# Altium schematic symbol library Logic.SchLib: 13 symbols (part 4 of 4)
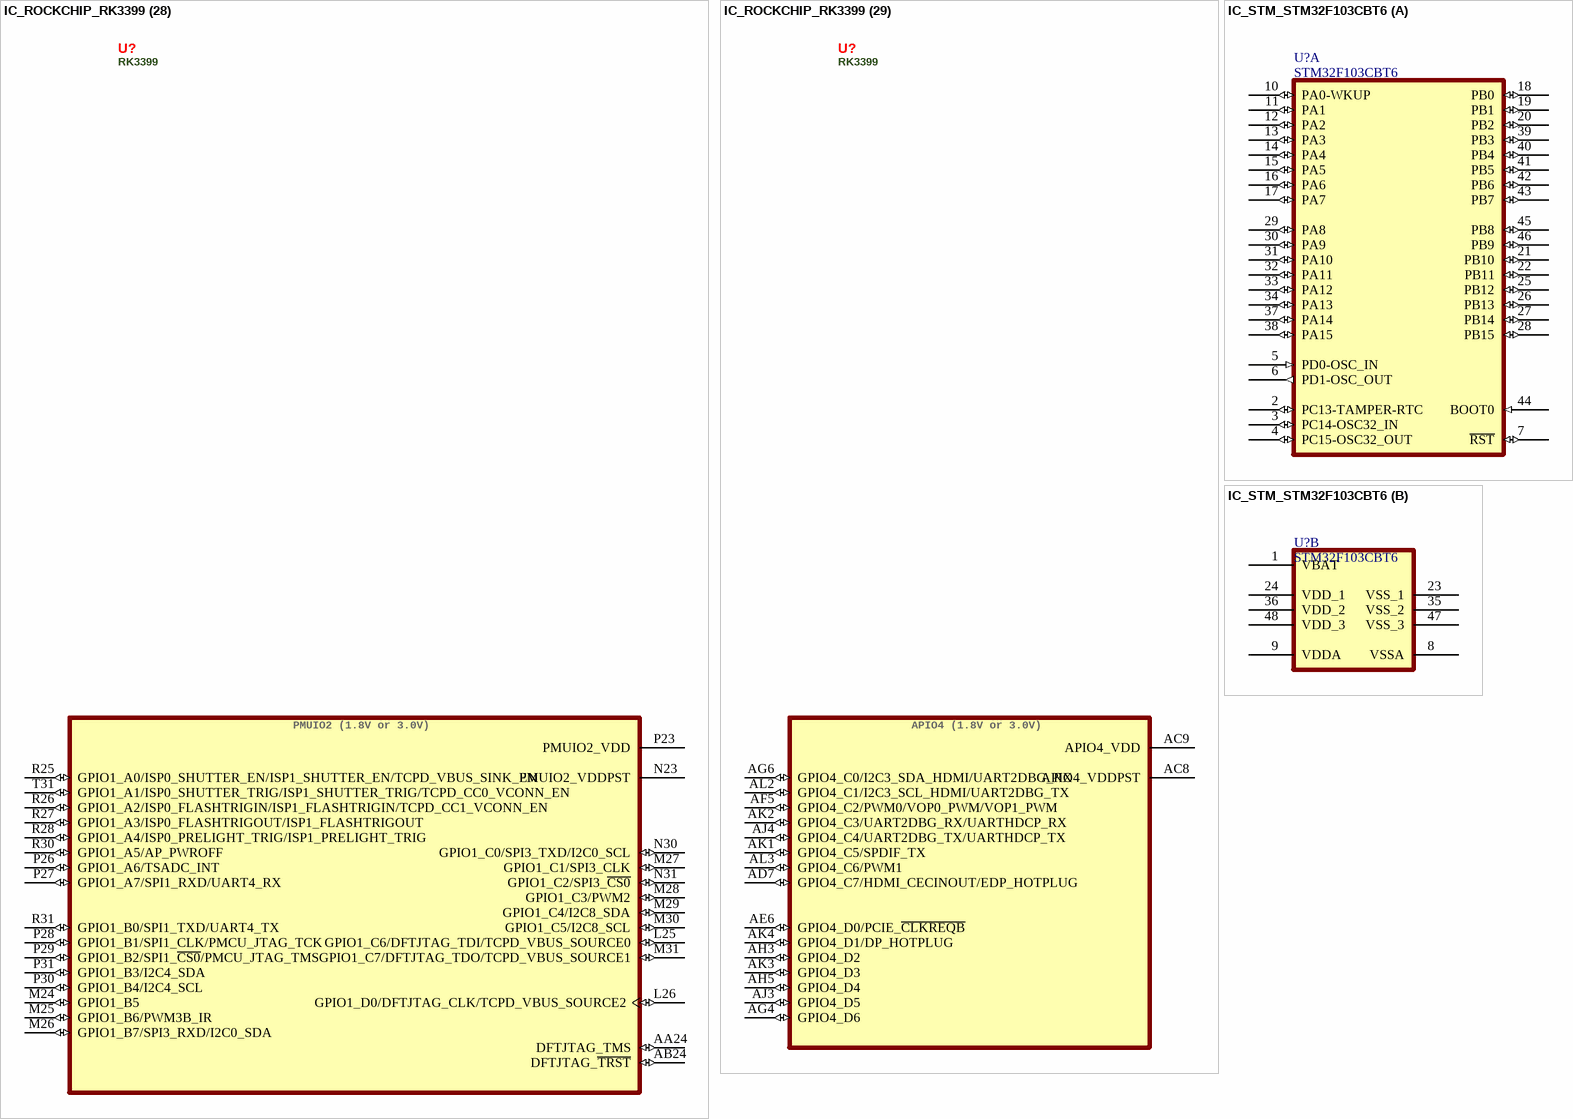
[diagram p10: symbols IC_ROCKCHIP_RK3399 to IC_STM_STM32F103CBT6]

## IC_ROCKCHIP_RK3399 (continued)
part 27 pins: AA6 GPIO3_D5/I2S0_SDI2SDO2 (io) "GPIO3_D5 // I2S0_SDI2SDO2 (I2S/PCM Serial Data Input [2] or output [2] )", AA7 GPIO4_A4/I2S1_LRCK_RX (io) "GPIO4_A4 // I2S1_LRCK_RX (I2S/PCM Left & Right Channel Signal for Receiving Serial Data)", AA8 APIO5_VDDPST (power) "GPIO Group 5 Bias", AC6 GPIO4_A7/I2S1_SDO0 (io) "GPIO4_A7 // I2S1_SDO0 (I2S/PCM Serial Data Output [0] )", AC7 GPIO4_A0/I2S_CLK (io) "GPIO4_A0 // I2S_CLK (I2S/PCM Clock Source, shared by I2S0 and I2S1", AD6 GPIO4_A6/I2S1_SDI0 (io) "GPIO4_A6 // I2S1_SDI0 (I2S/PCM Serial Data Input[0] )", AE5 GPIO3_D4/I2S0_SDI1SDO3 (io) "GPIO3_D4 // I2S0_SDI1SDO3 (I2S/PCM Serial Data Input [1] or output [3] )", AF3 GPIO4_A3/I2S1_SCLK (io) "GPIO4_A3 // I2S1_SCLK (I2S/PCM Serial Clock)", AF4 GPIO3_D1/I2S0_LRCK_RX (io) "GPIO3_D1 // I2S0_LRCK_RX (I2S/PCM Left & Right Channel Signal for Receiving Serial Data)", AG1 GPIO4_A1/I2C1_SDA (io) "GPIO4_A1 // I2C1_SDA (I2C Data Line)", AG3 GPIO3_D0/I2S0_SCLK (io) "GPIO3_D0 // I2S0_SCLK (I2S/PCM Serial Clock)", AH1 GPIO3_D7/I2S0_SDO0 (io) "GPIO3_D7 // I2S0_SDO0 (I2S/PCM Serial Data Output [0] )", AH2 GPIO3_D6/I2S0_SDI3SDO1 (io) "GPIO3_D6 // I2S0_SDI3SDO1 (I2S/PCM Serial Data Input [3] or output [1] )", AJ1 GPIO4_A5/I2S1_LRCK_TX (io) "GPIO4_A5 // I2S1_LRCK_TX (I2S/PCM Left & Right Channel Signal for Transmitting Serial Data)", AJ2 GPIO3_D2/I2S0_LRCK_TX (io) "GPIO3_D2 // I2S0_LRCK_TX (I2S/PCM Left & Right Channel Signal for Transmitting Serial Data)", Y6 GPIO4_A2/I2C1_SCL (io) "GPIO4_A2 // I2C1_SCL (I2C Serial Clock Line)", Y7 GPIO3_D3/I2S0_SDI0 (io) "GPIO3_D3 // I2S0_SDI0 (I2S/PCM Serial Data Input[0] )", Y8 APIO5_VDD (power) "GPIO Group 5 Digital Power"
part 28 pins: AA24 DFTJTAG_TMS (io) "JTAG Test Mode Select", AB24 DFTJTAG_~{TRST} (io) "JTAG Test Resetn", L25 GPIO1_C6/DFTJTAG_TDI/TCPD_VBUS_SOURCE0 (io) "GPIO1_C6 // DFTJTAG_TDI (JTAG Test Data Input) // TCPD_VBUS_SOURCE0", L26 GPIO1_D0/DFTJTAG_CLK/TCPD_VBUS_SOURCE2 (io) "GPIO1_D0 // DFTJTAG_CLK  (JTAG Test Clock) // TCPD_VBUS_SOURCE2", M24 GPIO1_B5 (io), M25 GPIO1_B6/PWM3B_IR (io) "GPIO1_B6 // PWMB3_IR (Pulse Width Modulation Output, special design for IR receiver)", M26 GPIO1_B7/SPI3_RXD/I2C0_SDA (io) "GPIO1_B7 // SPI3_RXD (SPI Serial Data Input) // I2C0_SDA (I2C Data Line)", M27 GPIO1_C1/SPI3_CLK (io) "GPIO1_C1 // SPI3_CLK (SPI Serial Clock)", M28 GPIO1_C3/PWM2 (io) "GPIO1_C3 // PWM2 (Pulse Width Modulation Output)", M29 GPIO1_C4/I2C8_SDA (io) "GPIO1_C4 // I2C8_SDA (I2C Data Line)", M30 GPIO1_C5/I2C8_SCL (io) "GPIO1_C5 // I2C8_SCL (I2C Serial Clock Line)", M31 GPIO1_C7/DFTJTAG_TDO/TCPD_VBUS_SOURCE1 (io) "GPIO1_C7 // DFTJTAG_TDO (JTAG Test Data Output) // TCPD_VBUS_SOURCE1", N23 PMUIO2_VDDPST (power) "PMUIO2 Domain IO Power", N30 GPIO1_C0/SPI3_TXD/I2C0_SCL (io) "GPIO1_C0 // SPI3_TXD (SPI Serial Data Output) // I2C0_SCL (I2C Serial Clock Line)", N31 GPIO1_C2/SPI3_~{CS0} (io) "GPIO1_C2 // SP3_CSn0 (SPI 1st Chip Select)", P23 PMUIO2_VDD (power) "PMUIO2 Domain IO Power", P26 GPIO1_A6/TSADC_INT (io) "TSADC Interrupt Signal for Over Temperature", P27 GPIO1_A7/SPI1_RXD/UART4_RX (io) "GPIO1_A7 // SPI1_RXD (SPI Serial Data Input) // UART4_RX (UART Serial Data Input)", P28 GPIO1_B1/SPI1_CLK/PMCU_JTAG_TCK (io) "GPIO1_B1 // SPI1_CLK (SPI Serial Clock) // PMCU_JTAG_TCK (PMU MCU JTAG Interface Clock Input / SWD Interface Clock Input)", P29 GPIO1_B2/SPI1_~{CS0}/PMCU_JTAG_TMS (io) "GPIO1_B2 // SP1_CSn0 (SPI 1st Chip Select) // PMCU_JTAG_TMS (PMU MCU JTAG Interface TMS Input / SWD Interface Data Out)", P30 GPIO1_B4/I2C4_SCL (io) "GPIO1_B4 // I2C4_SCL (I2C Serial Clock Line)", P31 GPIO1_B3/I2C4_SDA (io) "GPIO1_B3 // I2C4_SDA (I2C Data Line)", R25 GPIO1_A0/ISP0_SHUTTER_EN/ISP1_SHUTTER_EN/TCPD_VBUS_SINK_EN (io) "GPIO1_A0 // ISP0[1]_SHUTTER_EN (Hold Signal for Shutter Open) // TCPD_VBUS_SINK_EN", R26 GPIO1_A2/ISP0_FLASHTRIGIN/ISP1_FLASHTRIGIN/TCPD_CC1_VCONN_EN (io) "GPIO1_A2 // ISP0[1]_FLASHTRIGIN (External Flash Trigger Pulse) // TCPD_CC1_VCONN_EN", R27 GPIO1_A3/ISP0_FLASHTRIGOUT/ISP1_FLASHTRIGOUT (io) "GPIO1_A3 // ISP0[1]_FLASHTRIGOUT (Hold Signal for Flash Light)", R28 GPIO1_A4/ISP0_PRELIGHT_TRIG/ISP1_PRELIGHT_TRIG (io) "GPIO1_A4 // ISP0[1]_PRELIGHT_TRIG (Hold Signal for Prelight)", R30 GPIO1_A5/AP_PWROFF (io) "GPIO1_A5 // AP_PWROFF (System Power Off Control Port (PMIC_SLEEP)", R31 GPIO1_B0/SPI1_TXD/UART4_TX (io) "GPIO1_B0 // SPI1_TXD (SPI Serial Data Output) // UART4_TX (UART Serial Data Output)", T31 GPIO1_A1/ISP0_SHUTTER_TRIG/ISP1_SHUTTER_TRIG/TCPD_CC0_VCONN_EN (io) "GPIO1_A1 // ISP0[1]_SHUTTER_TRIG (External Shutter Trigger Pulse) // TCPD_CC0_VCONN_EN"
part 29 pins: AC8 APIO4_VDDPST (power) "GPIO Group 4 Bias", AC9 APIO4_VDD (power) "GPIO Group 4 Digital Power", AD7 GPIO4_C7/HDMI_CECINOUT/EDP_HOTPLUG (io) "GPIO4_C7 // HDMI_CECINOUT (HDMI CEC Signal) // EDP_HOTPLUG (eDP External Hot Plug Signal)", AE6 GPIO4_D0/PCIE_~{CLKREQB} (io) "GPIO4_D0 // PCIE_CLKREQN (PCIe Clock Request from PCIe Peripheral)", AF5 GPIO4_C2/PWM0/VOP0_PWM/VOP1_PWM (io) "GPIO4_C2 // PWM0 (Pulse Width Modulation Output) // VOP0_PWM // VOP1_PWM ( CABC PWM from VOP0[1] )", AG4 GPIO4_D6 (io), AG6 GPIO4_C0/I2C3_SDA_HDMI/UART2DBG_RX (io) "GPIO4_C0 // I2C3_SDA (I2C Serial Clock Line) // UART2DBG_RX (Debug UART Serial Data Input)", AH3 GPIO4_D2 (io), AH5 GPIO4_D4 (io), AJ3 GPIO4_D5 (io), AJ4 GPIO4_C4/UART2DBG_TX/UARTHDCP_TX (io) "GPIO4_C4 ) // Debug UART Serial Data Output) // UARTHDCP_TX (HDCP UART Serial Data Output)", AK1 GPIO4_C5/SPDIF_TX (io) "GPIO4_C5 // SPDIF_TX (S/PDIF Bi-Phase Data Output)", AK2 GPIO4_C3/UART2DBG_RX/UARTHDCP_RX (io) "GPIO4_C3 ) // Debug UART Serial Data Input) // UARTHDCP_RX (HDCP UART Serial Data Input)", AK3 GPIO4_D3 (io), AK4 GPIO4_D1/DP_HOTPLUG (io) "GPIO4_D4 // DP Internal Hot Plug Signal", AL2 GPIO4_C1/I2C3_SCL_HDMI/UART2DBG_TX (io) "GPIO4_C1 // I2C3_SCL (I2C Serial Clock Line) // UART2DBG_TX (Debug UART Serial Data Output)", AL3 GPIO4_C6/PWM1 (io) "GPIO4_C6 // PWM1 (Pulse Width Modulation Output)"
part A text: Internal BIG CPU A72 Power
part B text: Internal LITTLE CPU A53 Power
part C text: Internal GPU Power
part D text: Internal Logic Power
part E text: Internal Center Logic Power
part F text: Internal Logic Ground and Digital I/O Ground
part G text: Analog Ground
part H text: PMUIO1 (1.8V only)
part I text: DDR1 GROUP INTERFACE
part J text: DDR0 GROUP INTERFACE
part K text: EMMC INTERFACE
part L text: SDMMC0 (1.8V or 3.0V AUTO)
part M text: PCIe INTERFACE
part N text: ADC INTERFACE
part O text: HDMI INTERFACE
part P text: MIPI TX GROUP INTERFACE
part Q text: MIPI RX GROUP INTERFACE
part R text: MIPI TX/RX GROUP INTERFACE
part S text: EDP INTERFACE
part T text: USB 2.0 INTERFACE; USB PHY0; USB PHY1
part U text: TYPE C0 INTERFACE
part V text: TYPE C1 INTERFACE
part W text: USIC
part X text: APIO2 (1.8V or 3.0V)
part Y text: APIO1 (3.3V ONLY)
part Z text: APIO3 (1.8V only)
part 27 text: APIO5 (1.8V or 3.0V)
part 28 text: PMUIO2 (1.8V or 3.0V)
part 29 text: APIO4 (1.8V or 3.0V)

## IC_STM_STM32F103CBT6
designator U?, comment STM32F103CBT6
ARM® Cortex®-M3 STM32 F1 Microcontroller IC 32-Bit 72MHz 128KB (128K x 8) FLASH; Manufacturer: STMicroelectronics; RAM Size: 20KB; Interface: I2C,SPI,USB,CAN,IrDA,UART,USART,LIN; Number of I/Os: 37; Number of Timers/Counters: 4; Max Supply Voltage: 3.6V; Min Supply Voltage: 2V; Oscillator Type: Internal; Data Bus Width: 32b; Watchdog Timer: Yes; Peripherals: POR,PWM,WDT,DMA,Temp Sensor,I2C; Core Architecture: ARM; Number of PWM Channels: 12; Number of ADC Channels: 10; Number of Bits: 32; Number of SPI Channels: 2; Manufacturer Part Number: STM32F103CBT6; Category: Microcontrollers; Case/Package: 48-LQFP; Min Operating Temperature: -40°C; Max Operating Temperature: 85°C; Frequency: 72MHz; Memory Size: 128KB; Number of I2C Channels: 2; RoHS Compliant: Yes; Supplier 1: Digi-Key; Supplier Part Number 1: 497-6288-ND; Supplier 2: Mouser; Supplier Part Number 2: 511-STM32F103CBT6; Memory Type: FLASH; ComponentLink1Description: Datasheet; ComponentLink1URL: https://www.st.com/resource/en/datasheet/stm32f103cb.pdf
footprint QFP50P900X900X160-48N (TSQFP, 48-Leads, Body 7.00x7.00mm, Pitch 0.50mm, IPC Medium Density)
ibis STM32F103CB (Model Description)
footprint QFP50P900X900X160-48M (TSQFP, 48-Leads, Body 7.00x7.00mm, Pitch 0.50mm, IPC Low Density)
footprint QFP50P900X900X160-48L (TSQFP, 48-Leads, Body 7.00x7.00mm, Pitch 0.50mm, IPC High Density)
part A pins: 2 PC13-TAMPER-RTC (io) "PC13-TAMPER-RTC/PC13/TAMPER-RTC", 3 PC14-OSC32_IN (io) "PC14-OSC32_IN/PC14/OSC32_IN", 4 PC15-OSC32_OUT (io) "PC15-OSC32_OUT/PC15/OSC32_OUT", 5 PD0-OSC_IN (in) "PD0/OSC_IN", 6 PD1-OSC_OUT (out) "PD1/OSC_OUT", 7 ~{RST} (io) "NRST", 10 PA0-WKUP (io) "PA0-WKUP/PA0/WKUP/USART2_CTS/ADC12_IN0/TIM2_CH1_ETR", 11 PA1 (io) "PA1/USART2_RTS/ADC12_IN1/TIM2_CH2", 12 PA2 (io) "PA2/USART2_TX/ADC12_IN2/TIM2_CH3", 13 PA3 (io) "PA3/USART2_RX/ADC12_IN3/TIM2_CH4", 14 PA4 (io) "PA4/SPI1_NSS/USART2_CK/ADC12_IN4", 15 PA5 (io) "PA5/SPI1_SCK/ADC12_IN5", 16 PA6 (io) "PA6/SPI1_MISO/ADC12_IN6/TIM3_CH1/TIM1_BKIN", 17 PA7 (io) "PA7/SPI1_MOSI/ADC12_IN7/TIM3_CH2/TIM1_CH1N", 18 PB0 (io) "PB0/ADC12_IN8/TIM3_CH3/TIM1_CH2N", 19 PB1 (io) "PB1/ADC12_IN9/TIM3_CH4/TIM1_CH3N", 20 PB2 (io) "PB2/BOOT1", 21 PB10 (io) "PB10/I2C2_SCL/USART3_TX/TIM2_CH3", 22 PB11 (io) "PB11/I2C2_SDA/USART3_RX/TIM2_CH4", 25 PB12 (io) "PB12/SPI2_NSS/I2C2_SMBAl/USART3_CK/TIM1_BKIN", 26 PB13 (io) "PB13/SPI2_SCK/USART3_CTS/TIM1_CH1N", 27 PB14 (io) "PB14/SPI2_MISO/USART3_RTS/TIM1_CH2N", 28 PB15 (io) "PB15/SPI2_MOSI/TIM1_CH3N", 29 PA8 (io) "PA8/USART1_CK/TIM1_CH1/MCO", 30 PA9 (io) "PA9/USART1_TX/TIM1_CH2", 31 PA10 (io) "PA10/USART1_RX/TIM1_CH3", 32 PA11 (io) "PA11/USART1_CTS/CANRX/USBDM/TIM1_CH4", 33 PA12 (io) "PA12/USART1_RTS/CANTX/USBDP/TIM1_ETR", 34 PA13 (io) "PA13/JTMS/SWDIO", 37 PA14 (io) "PA14/JTCK/SWCLK", 38 PA15 (io) "PA15/JTDI/TIM2_CH1_ETR/SPI1_NSS", 39 PB3 (io) "PB3/JTDO/TIM2_CH2/TRACESWO/SPI1_SCK", 40 PB4 (io) "PB4/NJTRST/TIM3_CH1/SPI1_MISO", 41 PB5 (io) "PB5/I2C1_SMBAI/TIM3_CH2/SPI1_MOSI", 42 PB6 (io) "PB6/I2C1_SCL/TIM4_CH1/USART1_TX", 43 PB7 (io) "PB7/I2C1_SDA/TIM4_CH2/USART1_RX", 44 BOOT0 (in), 45 PB8 (io) "PB8/TIM4_CH3/I2C1_SCL/CANRX", 46 PB9 (io) "PB9/TIM4_CH4/I2C1_SDA/CANTX"
part B pins: 1 VBAT (power), 8 VSSA (power), 9 VDDA (power), 23 VSS_1 (power), 24 VDD_1 (power), 35 VSS_2 (power), 36 VDD_2 (power), 47 VSS_3 (power), 48 VDD_3 (power)

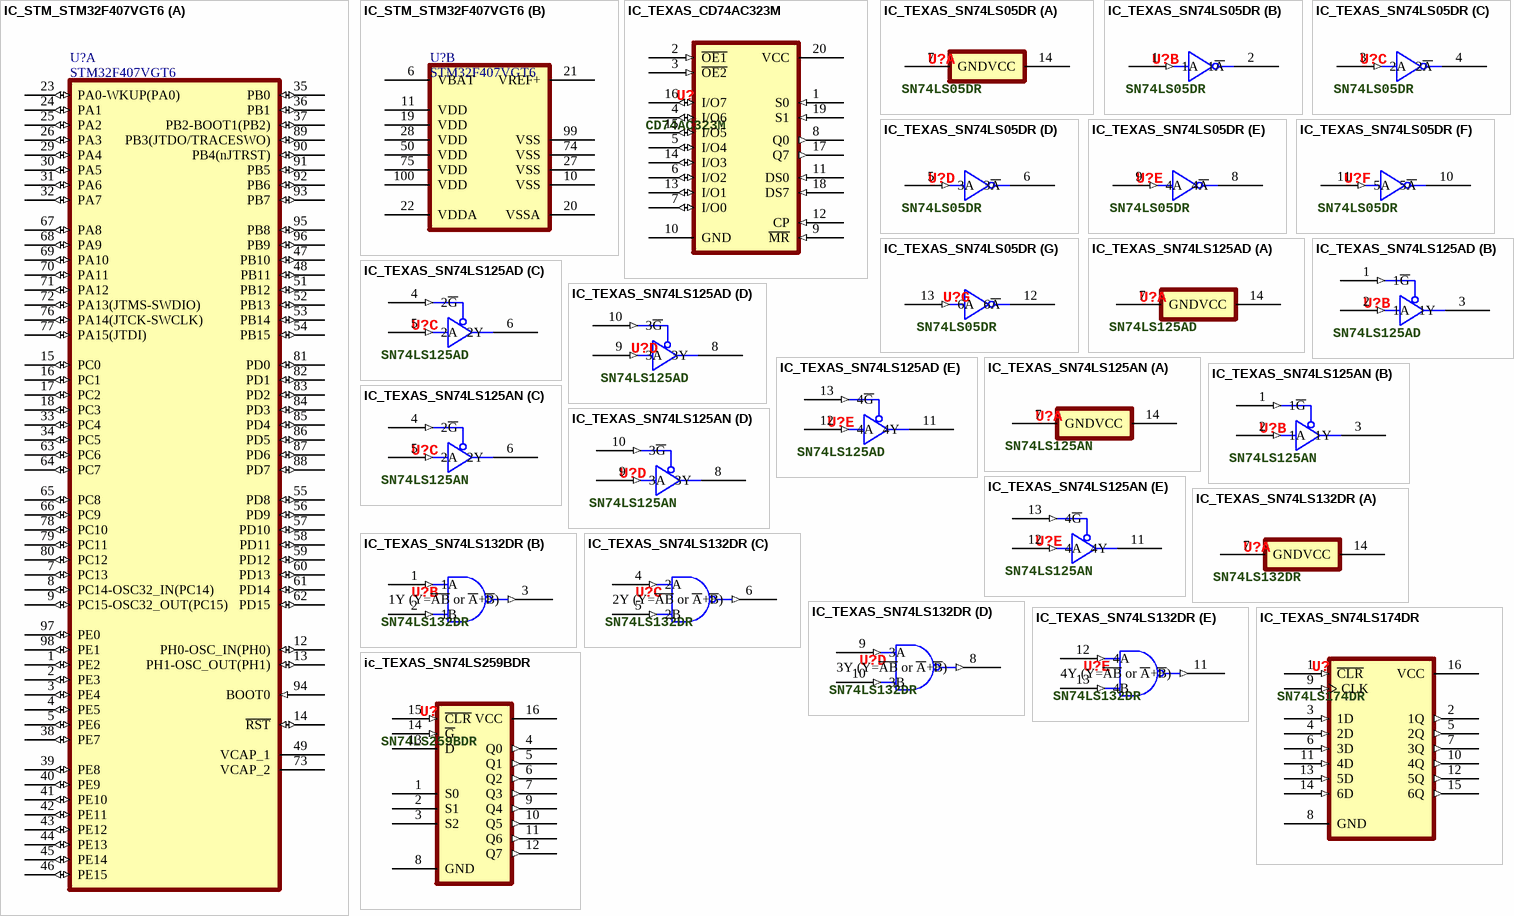
[diagram p8: symbols IC_STM_STM32F407VGT6 to ic_TEXAS_SN74LS259BDR]

## IC_STM_STM32F407VGT6
designator U?, comment STM32F407VGT6
ARM® Cortex®-M4 STM32 F4 Microcontroller IC 32-Bit Single-Core 168MHz 1MB (1M x 8) FLASH 100-LQFP (14x14); Manufacturer: STMicroelectronics; Core Architecture: ARM; Interface: I2C,SPI,CAN,I2S,UART,USB,Ethernet,IrDA,USART,LIN,EBI/EMI; Data Bus Width: 32b; Max Supply Voltage: 3.6V; Min Supply Voltage: 1.8V; Number of I/Os: 82; RAM Size: 196KB; Oscillator Type: Internal; Memory Size: 1024KB; Peripherals: Brown-out Detect/Reset,POR,PWM,WDT,DMA,LCD,I2C; Number of Timers/Counters: 14; Watchdog Timer: Yes; Number of ADC Channels: 16; Number of PWM Channels: 2; Number of SPI Channels: 3; Number of Ethernet Channels: 1; Manufacturer Part Number: STM32F407VGT6; Category: Microcontrollers; Case/Package: 100-LQFP; Min Operating Temperature: -40°C; Max Operating Temperature: 85°C; Frequency: 168MHz; Memory Type: FLASH; Number of I2C Channels: 3; Number of UART Channels: 2; RoHS Compliant: Yes; Supplier 1: Digi-Key; Supplier Part Number 1: 497-11605-ND; Supplier 2: Mouser; Supplier Part Number 2: 511-STM32F407VGT6; Supplier 3: Distrelec; Supplier Part Number 3: 17387276; ComponentLink1Description: Datasheet; ComponentLink1URL: https://www.st.com/resource/en/datasheet/stm32f407vg.pdf
ibis stm32f405_415_407_417_lqfp100 (Model Description)
footprint QFP50P1600X1600X160-100N (LQFP, 100-Leads, Body 14.00x14.00mm, Pitch 0.50mm, IPC Medium Density)
footprint QFP50P1600X1600X160-100L (LQFP, 100-Leads, Body 14.00x14.00mm, Pitch 0.50mm, IPC High Density)
footprint QFP50P1600X1600X160-100M (LQFP, 100-Leads, Body 14.00x14.00mm, Pitch 0.50mm, IPC Low Density)
part A pins: 1 PE2 (io) "PE2/TRACECLK/FSMC_A23/ETH_MII_TXD3/EVENTOUT", 2 PE3 (io) "PE3/TRACED0/FSMC_A19/EVENTOUT", 3 PE4 (io) "PE4/TRACED1/FSMC_A20/DCMI_D4/EVENTOUT", 4 PE5 (io) "PE5/TRACED2/FSMC_A21/TIM9_CH1/DCMI_D6/EVENTOUT", 5 PE6 (io) "PE6/TRACED3/FSMC_A22/TIM9_CH2/DCMI_D7/EVENTOUT", 7 PC13 (io) "PC13/EVENTOUT/RTC_OUT,RTC_TAMP1,RTC_TS", 8 PC14-OSC32_IN(PC14) (io) "PC14-OSC32_IN(PC14)/EVENTOUT/OSC32_IN", 9 PC15-OSC32_OUT(PC15) (io) "PC15-OSC32_OUT(PC15)/EVENTOUT/OSC32_OUT", 12 PH0-OSC_IN(PH0) (io) "PH0-OSC_IN(PH0)/EVENTOUT/OSC_IN", 13 PH1-OSC_OUT(PH1) (io) "PH1-OSC_OUT(PH1)/EVENTOUT/OSC_OUT", 14 ~{RST} (io) "NRST", 15 PC0 (io) "PC0/OTG_HS_ULPI_STP/EVENTOUT/ADC123_IN10", 16 PC1 (io) "PC1/ETH_MDC/EVENTOUT/ADC123_IN11", 17 PC2 (io) "PC2/SPI2_MISO/OTG_HS_ULPI_DIR/ETH_MII_TXD2/I2S2ext_SD/EVENTOUT/ADC123_IN12", 18 PC3 (io) "PC3/SPI2_MOSI/I2S2_SD/OTG_HS_ULPI_NXT/ETH_MII_TX_CLK/EVENTOUT/ADC123_IN13", 23 PA0-WKUP(PA0) (io) "PA0-WKUP(PA0)/USART2_CTS/UART4_TX/ETH_MII_CRS/TIM2_CH1_ETR/TIM5_CH1/TIM8_ETR/EVENTOUT/ADC123_IN0/WKUP", 24 PA1 (io) "PA1/USART2_RTS/UART4_RX/ETH_RMII_REF_CLK/ETH_MII_RX_CLK/TIM5_CH2/TIM2_CH2/EVENTOUT/ADC123_IN1", 25 PA2 (io) "PA2/USART2_TX/TIM5_CH3/TIM9_CH1/TIM2_CH3/ETH_MDIO/EVENTOUT/ADC123_IN2", 26 PA3 (io) "PA3/USART2_RX/TIM5_CH4/TIM9_CH2/TIM2_CH4/OTG_HS_ULPI_D0/ETH_MII_COL/EVENTOUT/ADC123_IN3", 29 PA4 (io) "PA4/SPI1_NSS/SPI3_NSS/USART2_CK/DCMI_HSYNC/OTG_HS_SOF/I2S3_WS/EVENTOUT/ADC12_IN4/DAC_OUT1", 30 PA5 (io) "PA5/SPI1_SCK/OTG_HS_ULPI_CK/TIM2_CH1_ETR/TIM8_CH1N/EVENTOUT/ADC12_IN5/DAC_OUT2", 31 PA6 (io) "PA6/SPI1_MISO/TIM8_BKIN/TIM13_CH1/DCMI_PIXCLK/TIM3_CH1/TIM1_BKIN/EVENTOUT/ADC12_IN6", 32 PA7 (io) "PA7/SPI1_MOSI/TIM8_CH1N/TIM14_CH1/TIM3_CH2/ETH_MII_RX_DV/TIM1_CH1N/ETH_RMII_CRS_DV/EVENTOUT/ADC12_IN7", 33 PC4 (io) "PC4/ETH_RMII_RX_D0/ETH_MII_RX_D0/EVENTOUT/ADC12_IN14", 34 PC5 (io) "PC5/ETH_RMII_RX_D1/ETH_MII_RX_D1/EVENTOUT/ADC12_IN15", 35 PB0 (io) "PB0/TIM3_CH3/TIM8_CH2N/OTG_HS_ULPI_D1/ETH_MII_RXD2/TIM1_CH2N/EVENTOUT/ADC12_IN8", 36 PB1 (io) "PB1/TIM3_CH4/TIM8_CH3N/OTG_HS_ULPI_D2/ETH_MII_RXD3/TIM1_CH3N/EVENTOUT/ADC12_IN9", 37 PB2-BOOT1(PB2) (io) "PB2-BOOT1(PB2)/EVENTOUT", 38 PE7 (io) "PE7/FSMC_D4/TIM1_ETR/EVENTOUT", 39 PE8 (io) "PE8/FSMC_D5/TIM1_CH1N/EVENTOUT", 40 PE9 (io) "PE9/FSMC_D6/TIM1_CH1/EVENTOUT", 41 PE10 (io) "PE10/FSMC_D7/TIM1_CH2N/EVENTOUT", 42 PE11 (io) "PE11/FSMC_D8/TIM1_CH2/EVENTOUT", 43 PE12 (io) "PE12/FSMC_D9/TIM1_CH3N/EVENTOUT", 44 PE13 (io) "PE13/FSMC_D10/TIM1_CH3/EVENTOUT", 45 PE14 (io) "PE14/FSMC_D11/TIM1_CH4/EVENTOUT", 46 PE15 (io) "PE15/FSMC_D12/TIM1_BKIN/EVENTOUT", 47 PB10 (io) "PB10/SPI2_SCK/I2S2_CK/I2C2_SCL/USART3_TX/OTG_HS_ULPI_D3/ETH_MII_RX_ER/TIM2_CH3/EVENTOUT", 48 PB11 (io) "PB11/I2C2_SDA/USART3_RX/OTG_HS_ULPI_D4/ETH_RMII_TX_EN/ETH_MII_TX_EN/TIM2_CH4/EVENTOUT", 49 VCAP_1 (power), 51 PB12 (io) "PB12/SPI2_NSS/I2S2_WS/I2C2_SMBA/USART3_CK/TIM1_BKIN/CAN2_RX/OTG_HS_ULPI_D5/ETH_RMII_TXD0/ETH_MII_TXD0/OTG_HS_ID/EVENTOUT", 52 PB13 (io) "PB13/SPI2_SCK/I2S2_CK/USART3_CTS/TIM1_CH1N/CAN2_TX/OTG_HS_ULPI_D6/ETH_RMII_TXD1/ETH_MII_TXD1/EVENTOUT/OTG_HS_VBUS", 53 PB14 (io) "PB14/SPI2_MISO/TIM1_CH2N/TIM12_CH1/OTG_HS_DM/USART3_RTS/TIM8_CH2N/I2S2ext_SD/EVENTOUT", 54 PB15 (io) "PB15/SPI2_MOSI/I2S2_SD/TIM1_CH3N/TIM8_CH3N/TIM12_CH2/OTG_HS_DP/EVENTOUT/RTC_REFIN", 55 PD8 (io) "PD8/FSMC_D13/USART3_TX/EVENTOUT", 56 PD9 (io) "PD9/FSMC_D14/USART3_RX/EVENTOUT", 57 PD10 (io) "PD10/FSMC_D15/USART3_CK/EVENTOUT", 58 PD11 (io) "PD11/FSMC_CLE/FSMC_A16/USART3_CTS/EVENTOUT", 59 PD12 (io) "PD12/FSMC_ALE/FSMC_A17/TIM4_CH1/USART3_RTS/EVENTOUT", 60 PD13 (io) "PD13/FSMC_A18/TIM4_CH2/EVENTOUT", 61 PD14 (io) "PD14/FSMC_D0/TIM4_CH3/EVENTOUT", 62 PD15 (io) "PD15/FSMC_D1/TIM4_CH4/EVENTOUT", 63 PC6 (io) "PC6/I2S2_MCK/TIM8_CH1/SDIO_D6/USART6_TX/DCMI_D0/TIM3_CH1/EVENTOUT", 64 PC7 (io) "PC7/I2S3_MCK/TIM8_CH2/SDIO_D7/USART6_RX/DCMI_D1/TIM3_CH2/EVENTOUT", 65 PC8 (io) "PC8/TIM8_CH3/SDIO_D0/TIM3_CH3/USART6_CK/DCMI_D2/EVENTOUT", 66 PC9 (io) "PC9/I2S_CKIN/MCO2/TIM8_CH4/SDIO_D1/I2C3_SDA/DCMI_D3/TIM3_CH4/EVENTOUT", 67 PA8 (io) "PA8/MCO1/USART1_CK/TIM1_CH1/I2C3_SCL/OTG_FS_SOF/EVENTOUT", 68 PA9 (io) "PA9/USART1_TX/TIM1_CH2/I2C3_SMBA/DCMI_D0/EVENTOUT/OTG_FS_VBUS", 69 PA10 (io) "PA10/USART1_RX/TIM1_CH3/OTG_FS_ID/DCMI_D1/EVENTOUT", 70 PA11 (io) "PA11/USART1_CTS/CAN1_RX/TIM1_CH4/OTG_FS_DM/EVENTOUT", 71 PA12 (io) "PA12/USART1_RTS/CAN1_TX/TIM1_ETR/OTG_FS_DP/EVENTOUT", 72 PA13(JTMS-SWDIO) (io) "PA13(JTMS-SWDIO)/JTMS-SWDIO/EVENTOUT", 73 VCAP_2 (power), 76 PA14(JTCK-SWCLK) (io) "PA14(JTCK-SWCLK)/JTCK-SWCLK/EVENTOUT", 77 PA15(JTDI) (io) "PA15(JTDI)/JTDI/SPI3_NSS/I2S3_WS/TIM2_CH1_ETR/SPI1_NSS/EVENTOUT", 78 PC10 (io) "PC10/SPI3_SCK/I2S3_CK/UART4_TX/SDIO_D2/DCMI_D8/USART3_TX/EVENTOUT", 79 PC11 (io) "PC11/UART4_RX/SPI3_MISO/SDIO_D3/DCMI_D4/USART3_RX/I2S3ext_SD/EVENTOUT", 80 PC12 (io) "PC12/UART5_TX/SDIO_CK/DCMI_D9/SPI3_MOSI/I2S3_SD/USART3_CK/EVENTOUT", 81 PD0 (io) "PD0/FSMC_D2/CAN1_RX/EVENTOUT", 82 PD1 (io) "PD1/FSMC_D3/CAN1_TX/EVENTOUT", 83 PD2 (io) "PD2/TIM3_ETR/UART5_RX/SDIO_CMD/DCMI_D11/EVENTOUT", 84 PD3 (io) "PD3/FSMC_CLK/USART2_CTS/EVENTOUT", 85 PD4 (io) "PD4/FSMC_NOE/USART2_RTS/EVENTOUT", 86 PD5 (io) "PD5/FSMC_NWE/USART2_TX/EVENTOUT", 87 PD6 (io) "PD6/FSMC_NWAIT/USART2_RX/EVENTOUT", 88 PD7 (io) "PD7/USART2_CK/FSMC_NE1/FSMC_NCE2/EVENTOUT", 89 PB3(JTDO/TRACESWO) (io) "PB3(JTDO/TRACESWO)/JTDO/TRACESWO/SPI3_SCK/I2S3_CK/TIM2_CH2/SPI1_SCK/EVENTOUT", 90 PB4(nJTRST) (io) "PB4(NJTRST)/NJTRST/SPI3_MISO/TIM3_CH1/SPI1_MISO/I2S3ext_SD/EVENTOUT", 91 PB5 (io) "PB5/I2C1_SMBA/CAN2_RX/OTG_HS_ULPI_D7/ETH_PPS_OUT/TIM3_CH2/SPI1_MOSI/SPI3_MOSI/DCMI_D10/I2S3_SD/EVENTOUT", 92 PB6 (io) "PB6/I2C1_SCL/TIM4_CH1/CAN2_TX/DCMI_D5/USART1_TX/EVENTOUT", 93 PB7 (io) "PB7/I2C1_SDA/FSMC_NL/DCMI_VSYNC/USART1_RX/TIM4_CH2/EVENTOUT", 94 BOOT0 (in) "BOOT0/VPP", 95 PB8 (io) "PB8/TIM4_CH3/SDIO_D4/TIM10_CH1/DCMI_D6/ETH_MII_TXD3/I2C1_SCL/CAN1_RX/EVENTOUT", 96 PB9 (io) "PB9/SPI2_NSS/I2S2_WS/TIM4_CH4/TIM11_CH1/SDIO_D5/DCMI_D7/I2C1_SDA/CAN1_TX/EVENTOUT", 97 PE0 (io) "PE0/TIM4_ETR/FSMC_NBL0/DCMI_D2/EVENTOUT", 98 PE1 (io) "PE1/FSMC_NBL1/DCMI_D3/EVENTOUT"
part B pins: 6 VBAT (power), 10 VSS (power), 11 VDD (power), 19 VDD (power), 20 VSSA (power), 21 VREF+ (power), 22 VDDA (power), 27 VSS (power), 28 VDD (power), 50 VDD (power), 74 VSS (power), 75 VDD (power), 99 VSS (power), 100 VDD (power)

## IC_TEXAS_CD74AC323M
designator U?, comment CD74AC323M
Shift / Storage Register 1 Element 8 Bit 20-SOIC; Manufacturer: Texas Instruments; Min Supply Voltage: 1.5V; Max Supply Voltage: 5.5V; Frequency: 90MHz; Logic Function: Shift Register; Function: Universal; Propagation Delay: 186ns; Number of Circuits: 1; Number of Bits: 8; Output Type: 3-STATE; Max Power Dissipation: 400mW; Max Input Current: 20mA; Manufacturer Part Number: CD74AC323M; Category: Shift Registers; Case/Package: 20-SOIC; Min Operating Temperature: -55°C; Max Operating Temperature: 125°C; Series: 74AC; Technology: CMOS; RoHS Compliant: Yes; ComponentLink1URL: https://www.digikey.com/htmldatasheets/production/23212/0/0/1/cd74ac299m96.pdf; ComponentLink1Description: Datasheet; Supplier 1: Digi-Key; Supplier 2: Mouser; Supplier Part Number 1: CD74AC323M-ND; Supplier Part Number 2: 595-CD74AC323M
footprint SOIC127P1030X265-20N (SOIC, 20-Leads, Body 12.80x7.50mm, Pitch 1.27mm, IPC Medium Density)
footprint SOIC127P1030X265-20L (SOIC, 20-Leads, Body 12.80x7.50mm, Pitch 1.27mm, IPC High Density)
footprint SOIC127P1030X265-20M (SOIC, 20-Leads, Body 12.80x7.50mm, Pitch 1.27mm, IPC Low Density)
pins: 1 S0 (in), 2 ~{OE1} (in), 3 ~{OE2} (in), 4 I/O6 (io), 5 I/O4 (io), 6 I/O2 (io), 7 I/O0 (io), 8 Q0 (out), 9 ~{MR} (in), 10 GND (power), 11 DS0 (in), 12 CP (in), 13 I/O1 (io), 14 I/O3 (io), 15 I/O5 (io), 16 I/O7 (io), 17 Q7 (out), 18 DS7 (in), 19 S1 (in), 20 VCC (power)

## IC_TEXAS_SN74LS05DR
designator U?, comment SN74LS05DR
Inverter IC 6 Channel Open Collector 14-SOIC; Manufacturer: Texas Instruments; Propagation Delay: 32ns; Max Supply Voltage: 5.25V; Min Supply Voltage: 4.75V; Number of Circuits: 6; Polarity: Inverting; Manufacturer Part Number: SN74LS05DR; Category: Gates and Inverters; Case/Package: 14-SOIC; Min Operating Temperature: 0°C; Max Operating Temperature: 70°C; Logic Function: Inverter; Number of Bits: 6; Series: 74LS; Technology: BIPOLAR; ComponentLink1URL: https://www.digikey.com/htmldatasheets/production/114659/0/0/1/sn74ls05ng4.pdf; ComponentLink1Description: Datasheet; RoHS Compliant: Yes; Supplier 1: Digi-Key; Supplier 2: Mouser; Supplier Part Number 1: 296-1630-1-ND; Supplier Part Number 2: 595-SN74LS05DR
footprint SOIC127P780X200-14N (SOIC, 14-Leads, Body 10.20x5.30mm, Pitch 1.27mm, IPC Medium Density)
footprint SOIC127P780X200-14M (SOIC, 14-Leads, Body 10.20x5.30mm, Pitch 1.27mm, IPC Low Density)
footprint SOIC127P780X200-14L (SOIC, 14-Leads, Body 10.20x5.30mm, Pitch 1.27mm, IPC High Density)
part A pins: 7 GND (power), 14 VCC (power)
part B pins: 1 1A (in), 2 1~{A} (oc)
part C pins: 3 2A (in), 4 2~{A} (oc)
part D pins: 5 3A (in), 6 3~{A} (oc)
part E pins: 8 4~{A} (oc), 9 4A (in)
part F pins: 10 5~{A} (oc), 11 5A (in)
part G pins: 12 6~{A} (oc), 13 6A (in)

## IC_TEXAS_SN74LS125AD
designator U?, comment SN74LS125AD
Buffer, Non-Inverting 4 Element 1 Bit per Element 3-State Output 14-SOIC; Manufacturer: Texas Instruments; Logic Function: Buffer,Inverting; Propagation Delay: 18ns; Number of Bits: 4; Max Supply Voltage: 5.25V; Min Supply Voltage: 4.75V; Manufacturer Part Number: SN74LS125AD; Category: Buffers, Drivers and Transceivers; Case/Package: 14-SOIC; Min Operating Temperature: 0°C; Max Operating Temperature: 70°C; Polarity: Non-Inverting; Output Type: 3-STATE; Technology: BIPOLAR; Series: 74LS; Number of Circuits: 4; RoHS Compliant: Yes; ComponentLink1URL: https://www.ti.com/lit/ds/symlink/sn74ls126a.pdf; ComponentLink1Description: Datasheet; Supplier 1: Digi-Key; Supplier 2: Mouser; Supplier Part Number 1: 296-1637-5-ND; Supplier Part Number 2: 595-SN74LS125AD
footprint SOIC127P780X200-14N (SOIC, 14-Leads, Body 10.20x5.30mm, Pitch 1.27mm, IPC Medium Density)
footprint SOIC127P780X200-14L (SOIC, 14-Leads, Body 10.20x5.30mm, Pitch 1.27mm, IPC High Density)
footprint SOIC127P780X200-14M (SOIC, 14-Leads, Body 10.20x5.30mm, Pitch 1.27mm, IPC Low Density)
part A pins: 7 GND (power), 14 VCC (power)
part B pins: 1 1~{G} (in), 2 1A (in), 3 1Y (oc)
part C pins: 4 2~{G} (in), 5 2A (in), 6 2Y (oc)
part D pins: 8 3Y (oc), 9 3A (in), 10 3~{G} (in)
part E pins: 11 4Y (oc), 12 4A (in), 13 4~{G} (in)

## IC_TEXAS_SN74LS125AN
designator U?, comment SN74LS125AN
Buffer, Non-Inverting 4 Element 1 Bit per Element 3-State Output 14-PDIP; Manufacturer: Texas Instruments; Number of Bits: 4; Propagation Delay: 18ns; Logic Function: Buffer,Inverting; Min Supply Voltage: 4.75V; Max Supply Voltage: 5.25V; Manufacturer Part Number: SN74LS125AN; Category: Buffers, Drivers and Transceivers; Case/Package: 14-PDIP; Min Operating Temperature: 0°C; Max Operating Temperature: 70°C; Polarity: Non-Inverting; Output Type: 3-STATE; Series: 74LS; Technology: BIPOLAR; Number of Circuits: 4; RoHS Compliant: Yes; ComponentLink1URL: https://www.ti.com/lit/ds/symlink/sn74ls126a.pdf; ComponentLink1Description: Datasheet; Supplier 1: Digi-Key; Supplier 2: Mouser; Supplier Part Number 1: 296-1638-5-ND; Supplier Part Number 2: 595-SN74LS125AN
footprint DIP762W52P254L1905H533Q14-SKT (Dual-In-Line Package; Lead Span 7.62mm, Lead Width 0.52mm, Pin Pitch 2.54mm, Body Length 19.05mm, Body Height 5.33mm, Pin Qty 14 Socketed)
footprint DIP762W52P254L1905H533Q14 (Dual-In-Line Package; Lead Span 7.62mm, Lead Width 0.52mm, Pin Pitch 2.54mm, Body Length 19.05mm, Body Height 5.33mm, Pin Qty 14)
part A pins: 7 GND (power), 14 VCC (power)
part B pins: 1 1~{G} (in), 2 1A (in), 3 1Y (oc)
part C pins: 4 2~{G} (in), 5 2A (in), 6 2Y (oc)
part D pins: 8 3Y (oc), 9 3A (in), 10 3~{G} (in)
part E pins: 11 4Y (oc), 12 4A (in), 13 4~{G} (in)

## IC_TEXAS_SN74LS132DR
designator U?, comment SN74LS132DR
NAND Gate IC 4 Channel Schmitt Trigger 14-SOIC; Manufacturer: Texas Instruments; Propagation Delay: 22ns; Max Supply Voltage: 5.25V; Min Supply Voltage: 4.75V; Logic Function: NAND GATE,Schmitt Trigger; Number of Circuits: 4; Manufacturer Part Number: SN74LS132DR; Category: Gates and Inverters; Case/Package: 14-SOIC; Min Operating Temperature: 0°C; Max Operating Temperature: 70°C; Number of Bits: 4; Series: 74LS; Technology: BIPOLAR; RoHS Compliant: Yes; ComponentLink1URL: https://www.digikey.com/htmldatasheets/production/114672/0/0/1/sn74ls132n.pdf; ComponentLink1Description: Datasheet; Supplier 1: Digi-Key; Supplier 2: Mouser; Supplier Part Number 1: 296-31848-1-ND; Supplier Part Number 2: 595-SN74LS132DR
footprint SOIC127P780X200-14N (SOIC, 14-Leads, Body 10.20x5.30mm, Pitch 1.27mm, IPC Medium Density)
footprint SOIC127P780X200-14L (SOIC, 14-Leads, Body 10.20x5.30mm, Pitch 1.27mm, IPC High Density)
footprint SOIC127P780X200-14M (SOIC, 14-Leads, Body 10.20x5.30mm, Pitch 1.27mm, IPC Low Density)
part A pins: 7 GND (power), 14 VCC (power)
part B pins: 1 1A (in), 2 1B (in), 3 1Y (Y=~{AB} or ~{A}+~{B}) (out)
part C pins: 4 2A (in), 5 2B (in), 6 2Y (Y=~{AB} or ~{A}+~{B}) (out)
part D pins: 8 3Y (Y=~{AB} or ~{A}+~{B}) (out), 9 3A (in), 10 3B (in)
part E pins: 11 4Y (Y=~{AB} or ~{A}+~{B}) (out), 12 4A (in), 13 4B (in)

## IC_TEXAS_SN74LS174DR
designator U?, comment SN74LS174DR
Flip Flop 1 Element D-Type 6 Bit Positive Edge 16-SOIC; Manufacturer: Texas Instruments; Frequency: 40MHz; Min Supply Voltage: 4.75V; Max Supply Voltage: 5.25V; Logic Function: D-Type,Flip-Flop; Propagation Delay: 30ns; Number of Circuits: 7; Polarity: Non-Inverting; Number of Bits: 6; Output Type: TTL; Manufacturer Part Number: SN74LS174DR; Category: Latches and Flip Flops; Case/Package: 16-SOIC; Min Operating Temperature: 0°C; Max Operating Temperature: 70°C; Series: 74LS; Technology: BIPOLAR; RoHS Compliant: Yes; ComponentLink1URL: https://www.ti.com/lit/ds/symlink/sn74ls175.pdf; ComponentLink1Description: Datasheet; Supplier 1: Digi-Key; Supplier 2: Mouser; Supplier Part Number 1: 296-48957-1-ND; Supplier Part Number 2: 595-SN74LS174DR
footprint SOIC127P600X175-16N (SOIC, 16-Leads, Body 9.90x3.90mm, Pitch 1.27mm, IPC Medium Density)
footprint SOIC127P600X175-16L (SOIC, 16-Leads, Body 9.90x3.90mm, Pitch 1.27mm, IPC High Density)
footprint SOIC127P600X175-16M (SOIC, 16-Leads, Body 9.90x3.90mm, Pitch 1.27mm, IPC Low Density)
pins: 1 ~{CLR} (in), 2 1Q (out), 3 1D (in), 4 2D (in), 5 2Q (out), 6 3D (in), 7 3Q (out), 8 GND (power), 9 CLK (in), 10 4Q (out), 11 4D (in), 12 5Q (out), 13 5D (in), 14 6D (in), 15 6Q (out), 16 VCC (power)

## ic_TEXAS_SN74LS259BDR
designator U?, comment SN74LS259BDR
D-Type, Addressable 1 Channel 1:8 IC Standard 16-SOIC; Manufacturer: Texas Instruments; Propagation Delay: 30ns; Min Supply Voltage: 4.75V; Max Supply Voltage: 5.25V; Number of Circuits: 1; Polarity: Non-Inverting; Number of Bits: 8; Logic Function: D-Type,Shift Register; Manufacturer Part Number: SN74LS259BDR; Category: Latches and Flip Flops; Case/Package: 16-SOIC; Min Operating Temperature: 0°C; Max Operating Temperature: 70°C; Series: 74LS; Technology: BIPOLAR; RoHS Compliant: Yes; ComponentLink1URL: https://www.digikey.com/htmldatasheets/production/25794/0/0/1/sn74ls259bn.pdf; ComponentLink1Description: Datasheet; Supplier 1: Digi-Key; Supplier 2: Mouser; Supplier Part Number 1: 296-SN74LS259BDRCT-ND; Supplier Part Number 2: 595-SN74LS259BDR
footprint SOIC127P600X175-16N (SOIC, 16-Leads, Body 9.90x3.90mm, Pitch 1.27mm, IPC Medium Density)
footprint SOIC127P600X175-16L (SOIC, 16-Leads, Body 9.90x3.90mm, Pitch 1.27mm, IPC High Density)
footprint SOIC127P600X175-16M (SOIC, 16-Leads, Body 9.90x3.90mm, Pitch 1.27mm, IPC Low Density)
pins: 1 S0, 2 S1, 3 S2, 4 Q0 (out), 5 Q1 (out), 6 Q2 (out), 7 Q3 (out), 8 GND (power), 9 Q4 (out), 10 Q5 (out), 11 Q6 (out), 12 Q7 (out), 13 D, 14 ~{G} (in), 15 ~{CLR} (in), 16 VCC (power)